# EAGLE library part IC_MIC2027 (library dp_devices)
Quad USB Power Distribution Switch Mfr no: MIC2027-2YM MIC2027 <http://www.digikey.com/product-detail/en/MIC2027-2YM/576-2139-ND/1027902>
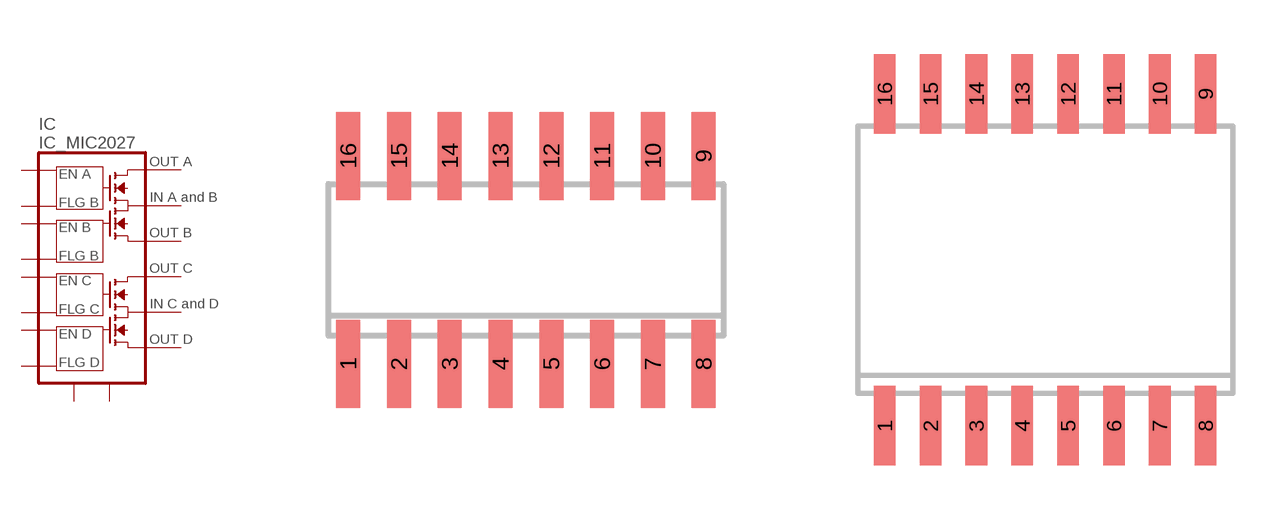
[diagram p116: symbol with the pads of SOIC-16; footprints SOIC-16, SOIC-16W]

Designator prefix IC

## IC_MIC2027-SOIC-16  [SOIC-16]
1  FLG_A  out
2  EN_A  in
3  OUT_A  out
4  GND  pwr
5  IN_CD  in
6  OUT_C  out
7  EN_C  in
8  FLG_C  out
9  FLG_D  out
10  EN_D  in
11  OUT_D  out
12  GND  pwr
13  IN_AB  in
14  OUT_B  out
15  EN_B  in
16  FLG_B  out

## IC_MIC2027-SOIC-16W  [SOIC-16W]
Pads as for SOIC-16

## Footprint SOIC-16 (pad centres in mm)
smd 0.6 x 2.2: 1 -4.445,-2.6; 2 -3.175,-2.6; 3 -1.905,-2.6; 4 -0.635,-2.6; 5 0.635,-2.6; 6 1.905,-2.6; 7 3.175,-2.6; 8 4.445,-2.6; 9 4.445,2.6; 10 3.175,2.6; 11 1.905,2.6; 12 0.635,2.6; 13 -0.635,2.6; 14 -1.905,2.6; 15 -3.175,2.6; 16 -4.445,2.6

## Footprint SOIC-16W (pad centres in mm)
smd 0.6 x 2.2: 1 -4.445,-4.6; 2 -3.175,-4.6; 3 -1.905,-4.6; 4 -0.635,-4.6; 5 0.635,-4.6; 6 1.905,-4.6; 7 3.175,-4.6; 8 4.445,-4.6; 9 4.445,4.6; 10 3.175,4.6; 11 1.905,4.6; 12 0.635,4.6; 13 -0.635,4.6; 14 -1.905,4.6; 15 -3.175,4.6; 16 -4.445,4.6